# Altium schematic symbol library TP_0.Schlib: 1 symbol
Pins are listed as number, name and electrical type; pins without a type are passive.

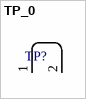
[diagram p0: symbol TP_0]

## TP_0
designator TP?  (value not drawn)
Test Point Jumper Link
pins: 1, 2